# Altium schematic symbol library SCH - MCU - STM32 - ST MICROELECTRONICS STM32L471Q(E-G)IX UFBGA132.SchLib: 1 symbol
Pins are listed as number, name and electrical type; pins without a type are passive.

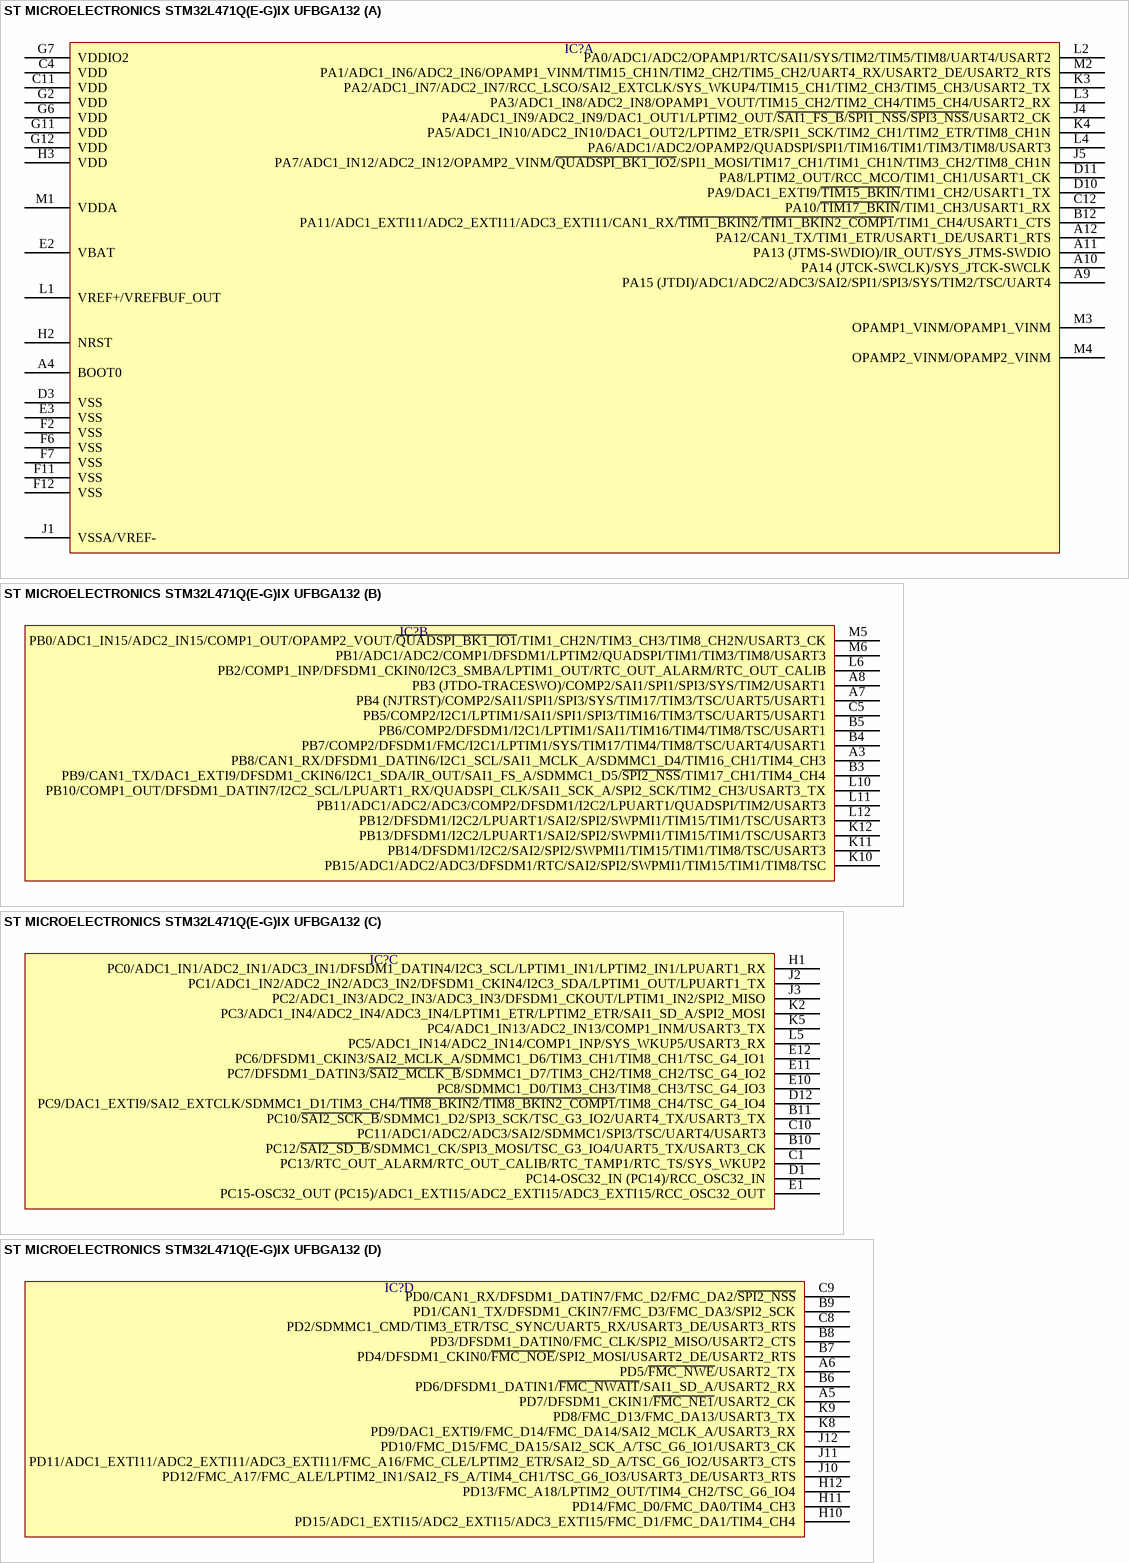
[diagram p0: symbol ST MICROELECTRONICS STM32L471Q(E-G)IX UFBGA132]

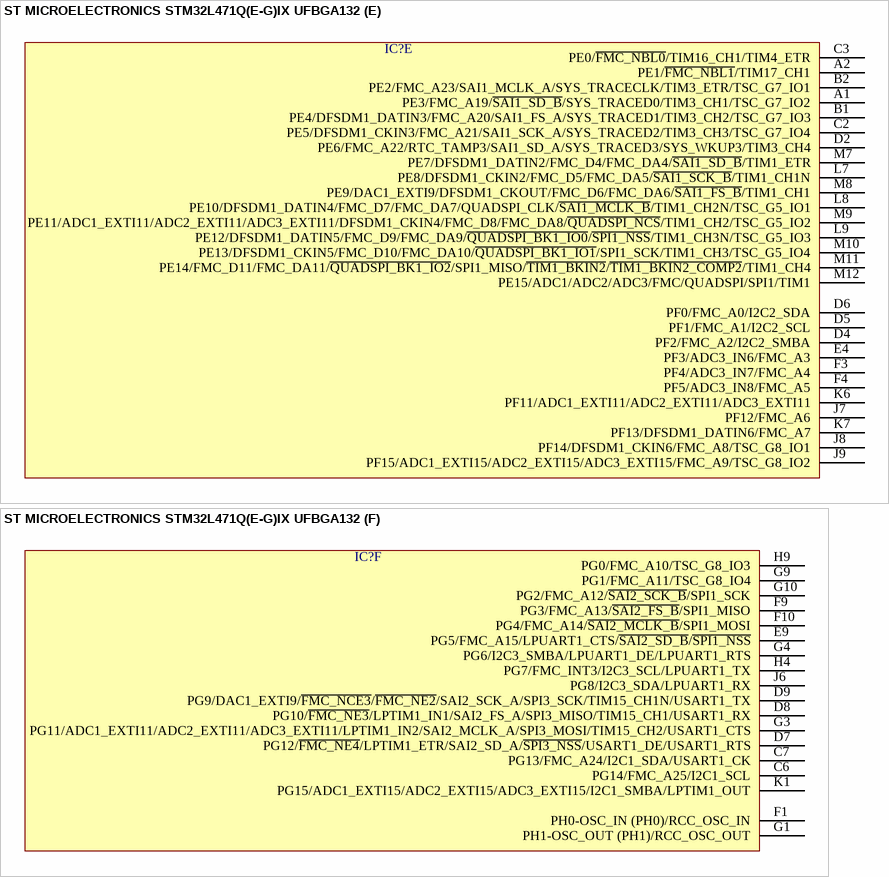
[diagram p1: symbol ST MICROELECTRONICS STM32L471Q(E-G)IX UFBGA132]

## ST MICROELECTRONICS STM32L471Q(E-G)IX UFBGA132
designator IC?  (value not drawn)
part A pins: A4 BOOT0, A9 PA15 (JTDI)/ADC1/ADC2/ADC3/SAI2/SPI1/SPI3/SYS/TIM2/TSC/UART4, A10 PA14 (JTCK-SWCLK)/SYS_JTCK-SWCLK, A11 PA13 (JTMS-SWDIO)/IR_OUT/SYS_JTMS-SWDIO, A12 PA12/CAN1_TX/TIM1_ETR/USART1_DE/USART1_RTS, B12 PA11/ADC1_EXTI11/ADC2_EXTI11/ADC3_EXTI11/CAN1_RX/~{TIM1_BKIN2}/~{TIM1_BKIN2_COMP1}/TIM1_CH4/USART1_CTS, C4 VDD, C11 VDD, C12 PA10/~{TIM17_BKIN}/TIM1_CH3/USART1_RX, D3 VSS, D10 PA9/DAC1_EXTI9/~{TIM15_BKIN}/TIM1_CH2/USART1_TX, D11 PA8/LPTIM2_OUT/RCC_MCO/TIM1_CH1/USART1_CK, E2 VBAT, E3 VSS, F2 VSS, F6 VSS, F7 VSS, F11 VSS, F12 VSS, G2 VDD, G6 VDD, G7 VDDIO2, G11 VDD, G12 VDD, H2 NRST, H3 VDD, J1 VSSA/VREF-, J4 PA4/ADC1_IN9/ADC2_IN9/DAC1_OUT1/LPTIM2_OUT/~{SAI1_FS_B}/~{SPI1_NSS}/~{SPI3_NSS}/USART2_CK, J5 PA7/ADC1_IN12/ADC2_IN12/OPAMP2_VINM/~{QUADSPI_BK1_IO2}/SPI1_MOSI/TIM17_CH1/TIM1_CH1N/TIM3_CH2/TIM8_CH1N, K3 PA2/ADC1_IN7/ADC2_IN7/RCC_LSCO/SAI2_EXTCLK/SYS_WKUP4/TIM15_CH1/TIM2_CH3/TIM5_CH3/USART2_TX, K4 PA5/ADC1_IN10/ADC2_IN10/DAC1_OUT2/LPTIM2_ETR/SPI1_SCK/TIM2_CH1/TIM2_ETR/TIM8_CH1N, L1 VREF+/VREFBUF_OUT, L2 PA0/ADC1/ADC2/OPAMP1/RTC/SAI1/SYS/TIM2/TIM5/TIM8/UART4/USART2, L3 PA3/ADC1_IN8/ADC2_IN8/OPAMP1_VOUT/TIM15_CH2/TIM2_CH4/TIM5_CH4/USART2_RX, L4 PA6/ADC1/ADC2/OPAMP2/QUADSPI/SPI1/TIM16/TIM1/TIM3/TIM8/USART3, M1 VDDA, M2 PA1/ADC1_IN6/ADC2_IN6/OPAMP1_VINM/TIM15_CH1N/TIM2_CH2/TIM5_CH2/UART4_RX/USART2_DE/USART2_RTS, M3 OPAMP1_VINM/OPAMP1_VINM, M4 OPAMP2_VINM/OPAMP2_VINM
part B pins: A3 PB8/CAN1_RX/DFSDM1_DATIN6/I2C1_SCL/SAI1_MCLK_A/SDMMC1_D4/TIM16_CH1/TIM4_CH3, A7 PB4 (NJTRST)/COMP2/SAI1/SPI1/SPI3/SYS/TIM17/TIM3/TSC/UART5/USART1, A8 PB3 (JTDO-TRACESWO)/COMP2/SAI1/SPI1/SPI3/SYS/TIM2/USART1, B3 PB9/CAN1_TX/DAC1_EXTI9/DFSDM1_CKIN6/I2C1_SDA/IR_OUT/SAI1_FS_A/SDMMC1_D5/~{SPI2_NSS}/TIM17_CH1/TIM4_CH4, B4 PB7/COMP2/DFSDM1/FMC/I2C1/LPTIM1/SYS/TIM17/TIM4/TIM8/TSC/UART4/USART1, B5 PB6/COMP2/DFSDM1/I2C1/LPTIM1/SAI1/TIM16/TIM4/TIM8/TSC/USART1, C5 PB5/COMP2/I2C1/LPTIM1/SAI1/SPI1/SPI3/TIM16/TIM3/TSC/UART5/USART1, K10 PB15/ADC1/ADC2/ADC3/DFSDM1/RTC/SAI2/SPI2/SWPMI1/TIM15/TIM1/TIM8/TSC, K11 PB14/DFSDM1/I2C2/SAI2/SPI2/SWPMI1/TIM15/TIM1/TIM8/TSC/USART3, K12 PB13/DFSDM1/I2C2/LPUART1/SAI2/SPI2/SWPMI1/TIM15/TIM1/TSC/USART3, L6 PB2/COMP1_INP/DFSDM1_CKIN0/I2C3_SMBA/LPTIM1_OUT/RTC_OUT_ALARM/RTC_OUT_CALIB, L10 PB10/COMP1_OUT/DFSDM1_DATIN7/I2C2_SCL/LPUART1_RX/QUADSPI_CLK/SAI1_SCK_A/SPI2_SCK/TIM2_CH3/USART3_TX, L11 PB11/ADC1/ADC2/ADC3/COMP2/DFSDM1/I2C2/LPUART1/QUADSPI/TIM2/USART3, L12 PB12/DFSDM1/I2C2/LPUART1/SAI2/SPI2/SWPMI1/TIM15/TIM1/TSC/USART3, M5 PB0/ADC1_IN15/ADC2_IN15/COMP1_OUT/OPAMP2_VOUT/~{QUADSPI_BK1_IO1}/TIM1_CH2N/TIM3_CH3/TIM8_CH2N/USART3_CK, M6 PB1/ADC1/ADC2/COMP1/DFSDM1/LPTIM2/QUADSPI/TIM1/TIM3/TIM8/USART3
part C pins: B10 PC12/~{SAI2_SD_B}/SDMMC1_CK/SPI3_MOSI/TSC_G3_IO4/UART5_TX/USART3_CK, B11 PC10/~{SAI2_SCK_B}/SDMMC1_D2/SPI3_SCK/TSC_G3_IO2/UART4_TX/USART3_TX, C1 PC13/RTC_OUT_ALARM/RTC_OUT_CALIB/RTC_TAMP1/RTC_TS/SYS_WKUP2, C10 PC11/ADC1/ADC2/ADC3/SAI2/SDMMC1/SPI3/TSC/UART4/USART3, D1 PC14-OSC32_IN (PC14)/RCC_OSC32_IN, D12 PC9/DAC1_EXTI9/SAI2_EXTCLK/SDMMC1_D1/TIM3_CH4/~{TIM8_BKIN2}/~{TIM8_BKIN2_COMP1}/TIM8_CH4/TSC_G4_IO4, E1 PC15-OSC32_OUT (PC15)/ADC1_EXTI15/ADC2_EXTI15/ADC3_EXTI15/RCC_OSC32_OUT, E10 PC8/SDMMC1_D0/TIM3_CH3/TIM8_CH3/TSC_G4_IO3, E11 PC7/DFSDM1_DATIN3/~{SAI2_MCLK_B}/SDMMC1_D7/TIM3_CH2/TIM8_CH2/TSC_G4_IO2, E12 PC6/DFSDM1_CKIN3/SAI2_MCLK_A/SDMMC1_D6/TIM3_CH1/TIM8_CH1/TSC_G4_IO1, H1 PC0/ADC1_IN1/ADC2_IN1/ADC3_IN1/DFSDM1_DATIN4/I2C3_SCL/LPTIM1_IN1/LPTIM2_IN1/LPUART1_RX, J2 PC1/ADC1_IN2/ADC2_IN2/ADC3_IN2/DFSDM1_CKIN4/I2C3_SDA/LPTIM1_OUT/LPUART1_TX, J3 PC2/ADC1_IN3/ADC2_IN3/ADC3_IN3/DFSDM1_CKOUT/LPTIM1_IN2/SPI2_MISO, K2 PC3/ADC1_IN4/ADC2_IN4/ADC3_IN4/LPTIM1_ETR/LPTIM2_ETR/SAI1_SD_A/SPI2_MOSI, K5 PC4/ADC1_IN13/ADC2_IN13/COMP1_INM/USART3_TX, L5 PC5/ADC1_IN14/ADC2_IN14/COMP1_INP/SYS_WKUP5/USART3_RX
part D pins: A5 PD7/DFSDM1_CKIN1/~{FMC_NE1}/USART2_CK, A6 PD5/~{FMC_NWE}/USART2_TX, B6 PD6/DFSDM1_DATIN1/~{FMC_NWAIT}/SAI1_SD_A/USART2_RX, B7 PD4/DFSDM1_CKIN0/~{FMC_NOE}/SPI2_MOSI/USART2_DE/USART2_RTS, B8 PD3/DFSDM1_DATIN0/FMC_CLK/SPI2_MISO/USART2_CTS, B9 PD1/CAN1_TX/DFSDM1_CKIN7/FMC_D3/FMC_DA3/SPI2_SCK, C8 PD2/SDMMC1_CMD/TIM3_ETR/TSC_SYNC/UART5_RX/USART3_DE/USART3_RTS, C9 PD0/CAN1_RX/DFSDM1_DATIN7/FMC_D2/FMC_DA2/~{SPI2_NSS}, H10 PD15/ADC1_EXTI15/ADC2_EXTI15/ADC3_EXTI15/FMC_D1/FMC_DA1/TIM4_CH4, H11 PD14/FMC_D0/FMC_DA0/TIM4_CH3, H12 PD13/FMC_A18/LPTIM2_OUT/TIM4_CH2/TSC_G6_IO4, J10 PD12/FMC_A17/FMC_ALE/LPTIM2_IN1/SAI2_FS_A/TIM4_CH1/TSC_G6_IO3/USART3_DE/USART3_RTS, J11 PD11/ADC1_EXTI11/ADC2_EXTI11/ADC3_EXTI11/FMC_A16/FMC_CLE/LPTIM2_ETR/SAI2_SD_A/TSC_G6_IO2/USART3_CTS, J12 PD10/FMC_D15/FMC_DA15/SAI2_SCK_A/TSC_G6_IO1/USART3_CK, K8 PD9/DAC1_EXTI9/FMC_D14/FMC_DA14/SAI2_MCLK_A/USART3_RX, K9 PD8/FMC_D13/FMC_DA13/USART3_TX
part E pins: A1 PE3/FMC_A19/~{SAI1_SD_B}/SYS_TRACED0/TIM3_CH1/TSC_G7_IO2, A2 PE1/~{FMC_NBL1}/TIM17_CH1, B1 PE4/DFSDM1_DATIN3/FMC_A20/SAI1_FS_A/SYS_TRACED1/TIM3_CH2/TSC_G7_IO3, B2 PE2/FMC_A23/SAI1_MCLK_A/SYS_TRACECLK/TIM3_ETR/TSC_G7_IO1, C2 PE5/DFSDM1_CKIN3/FMC_A21/SAI1_SCK_A/SYS_TRACED2/TIM3_CH3/TSC_G7_IO4, C3 PE0/~{FMC_NBL0}/TIM16_CH1/TIM4_ETR, D2 PE6/FMC_A22/RTC_TAMP3/SAI1_SD_A/SYS_TRACED3/SYS_WKUP3/TIM3_CH4, D4 PF2/FMC_A2/I2C2_SMBA, D5 PF1/FMC_A1/I2C2_SCL, D6 PF0/FMC_A0/I2C2_SDA, E4 PF3/ADC3_IN6/FMC_A3, F3 PF4/ADC3_IN7/FMC_A4, F4 PF5/ADC3_IN8/FMC_A5, J7 PF12/FMC_A6, J8 PF14/DFSDM1_CKIN6/FMC_A8/TSC_G8_IO1, J9 PF15/ADC1_EXTI15/ADC2_EXTI15/ADC3_EXTI15/FMC_A9/TSC_G8_IO2, K6 PF11/ADC1_EXTI11/ADC2_EXTI11/ADC3_EXTI11, K7 PF13/DFSDM1_DATIN6/FMC_A7, L7 PE8/DFSDM1_CKIN2/FMC_D5/FMC_DA5/~{SAI1_SCK_B}/TIM1_CH1N, L8 PE10/DFSDM1_DATIN4/FMC_D7/FMC_DA7/QUADSPI_CLK/~{SAI1_MCLK_B}/TIM1_CH2N/TSC_G5_IO1, L9 PE12/DFSDM1_DATIN5/FMC_D9/FMC_DA9/~{QUADSPI_BK1_IO0}/~{SPI1_NSS}/TIM1_CH3N/TSC_G5_IO3, M7 PE7/DFSDM1_DATIN2/FMC_D4/FMC_DA4/~{SAI1_SD_B}/TIM1_ETR, M8 PE9/DAC1_EXTI9/DFSDM1_CKOUT/FMC_D6/FMC_DA6/~{SAI1_FS_B}/TIM1_CH1, M9 PE11/ADC1_EXTI11/ADC2_EXTI11/ADC3_EXTI11/DFSDM1_CKIN4/FMC_D8/FMC_DA8/~{QUADSPI_NCS}/TIM1_CH2/TSC_G5_IO2, M10 PE13/DFSDM1_CKIN5/FMC_D10/FMC_DA10/~{QUADSPI_BK1_IO1}/SPI1_SCK/TIM1_CH3/TSC_G5_IO4, M11 PE14/FMC_D11/FMC_DA11/~{QUADSPI_BK1_IO2}/SPI1_MISO/~{TIM1_BKIN2}/~{TIM1_BKIN2_COMP2}/TIM1_CH4, M12 PE15/ADC1/ADC2/ADC3/FMC/QUADSPI/SPI1/TIM1
part F pins: C6 PG14/FMC_A25/I2C1_SCL, C7 PG13/FMC_A24/I2C1_SDA/USART1_CK, D7 PG12/~{FMC_NE4}/LPTIM1_ETR/SAI2_SD_A/~{SPI3_NSS}/USART1_DE/USART1_RTS, D8 PG10/~{FMC_NE3}/LPTIM1_IN1/SAI2_FS_A/SPI3_MISO/TIM15_CH1/USART1_RX, D9 PG9/DAC1_EXTI9/~{FMC_NCE3}/~{FMC_NE2}/SAI2_SCK_A/SPI3_SCK/TIM15_CH1N/USART1_TX, E9 PG5/FMC_A15/LPUART1_CTS/~{SAI2_SD_B}/~{SPI1_NSS}, F1 PH0-OSC_IN (PH0)/RCC_OSC_IN, F9 PG3/FMC_A13/~{SAI2_FS_B}/SPI1_MISO, F10 PG4/FMC_A14/~{SAI2_MCLK_B}/SPI1_MOSI, G1 PH1-OSC_OUT (PH1)/RCC_OSC_OUT, G3 PG11/ADC1_EXTI11/ADC2_EXTI11/ADC3_EXTI11/LPTIM1_IN2/SAI2_MCLK_A/SPI3_MOSI/TIM15_CH2/USART1_CTS, G4 PG6/I2C3_SMBA/LPUART1_DE/LPUART1_RTS, G9 PG1/FMC_A11/TSC_G8_IO4, G10 PG2/FMC_A12/~{SAI2_SCK_B}/SPI1_SCK, H4 PG7/FMC_INT3/I2C3_SCL/LPUART1_TX, H9 PG0/FMC_A10/TSC_G8_IO3, J6 PG8/I2C3_SDA/LPUART1_RX, K1 PG15/ADC1_EXTI15/ADC2_EXTI15/ADC3_EXTI15/I2C1_SMBA/LPTIM1_OUT